# Altium footprint library TO263-5-SPE-TL2575HV.PcbLib: 1 footprints
Each footprint in its own frame and in the unit in brackets; x right, y up, seen from the top. Pads: shape width x height; smd on the part's side, far side on the other; paste and mask are expansions set on the pad; w line width, h text height; cw(c..) or ccw(c..) is an arc to the next point about the centre after c.
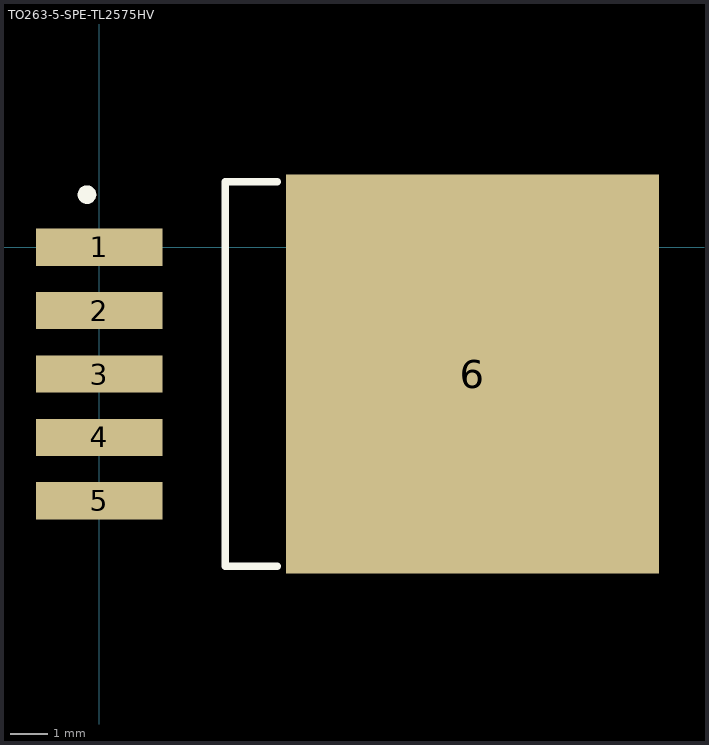
[diagram p0: the footprint, top view; thin cyan lines are the x and y axes]

## TO263-5-SPE-TL2575HV [mm]
height 4.4
pads (6):
  rect 3.4x1 smd: 1(0,0) 2(0,-1.7) 3(0,-3.4) 4(0,-5.1) 5(0,-6.8)
  rect 10x10.7 smd: 6(10,-3.4)
Top Overlay:
  circle w0.25: c-0.33,1.407 r0.125
  lines w0.2: 4.775,-8.554 3.375,-8.554 3.375,1.746 4.775,1.746
3D body: height 4.78, standoff -0.02, extent -1.37,-8.4 14.3,1.6